# Altium footprint library WizPoE-IO-V001.PcbLib: 30 footprints (part 1 of 2)
Each footprint in its own frame and in the unit in brackets; x right, y up, seen from the top. Pads: shape width x height; smd on the part's side, far side on the other; paste and mask are expansions set on the pad; w line width, h text height; cw(c..) or ccw(c..) is an arc to the next point about the centre after c.
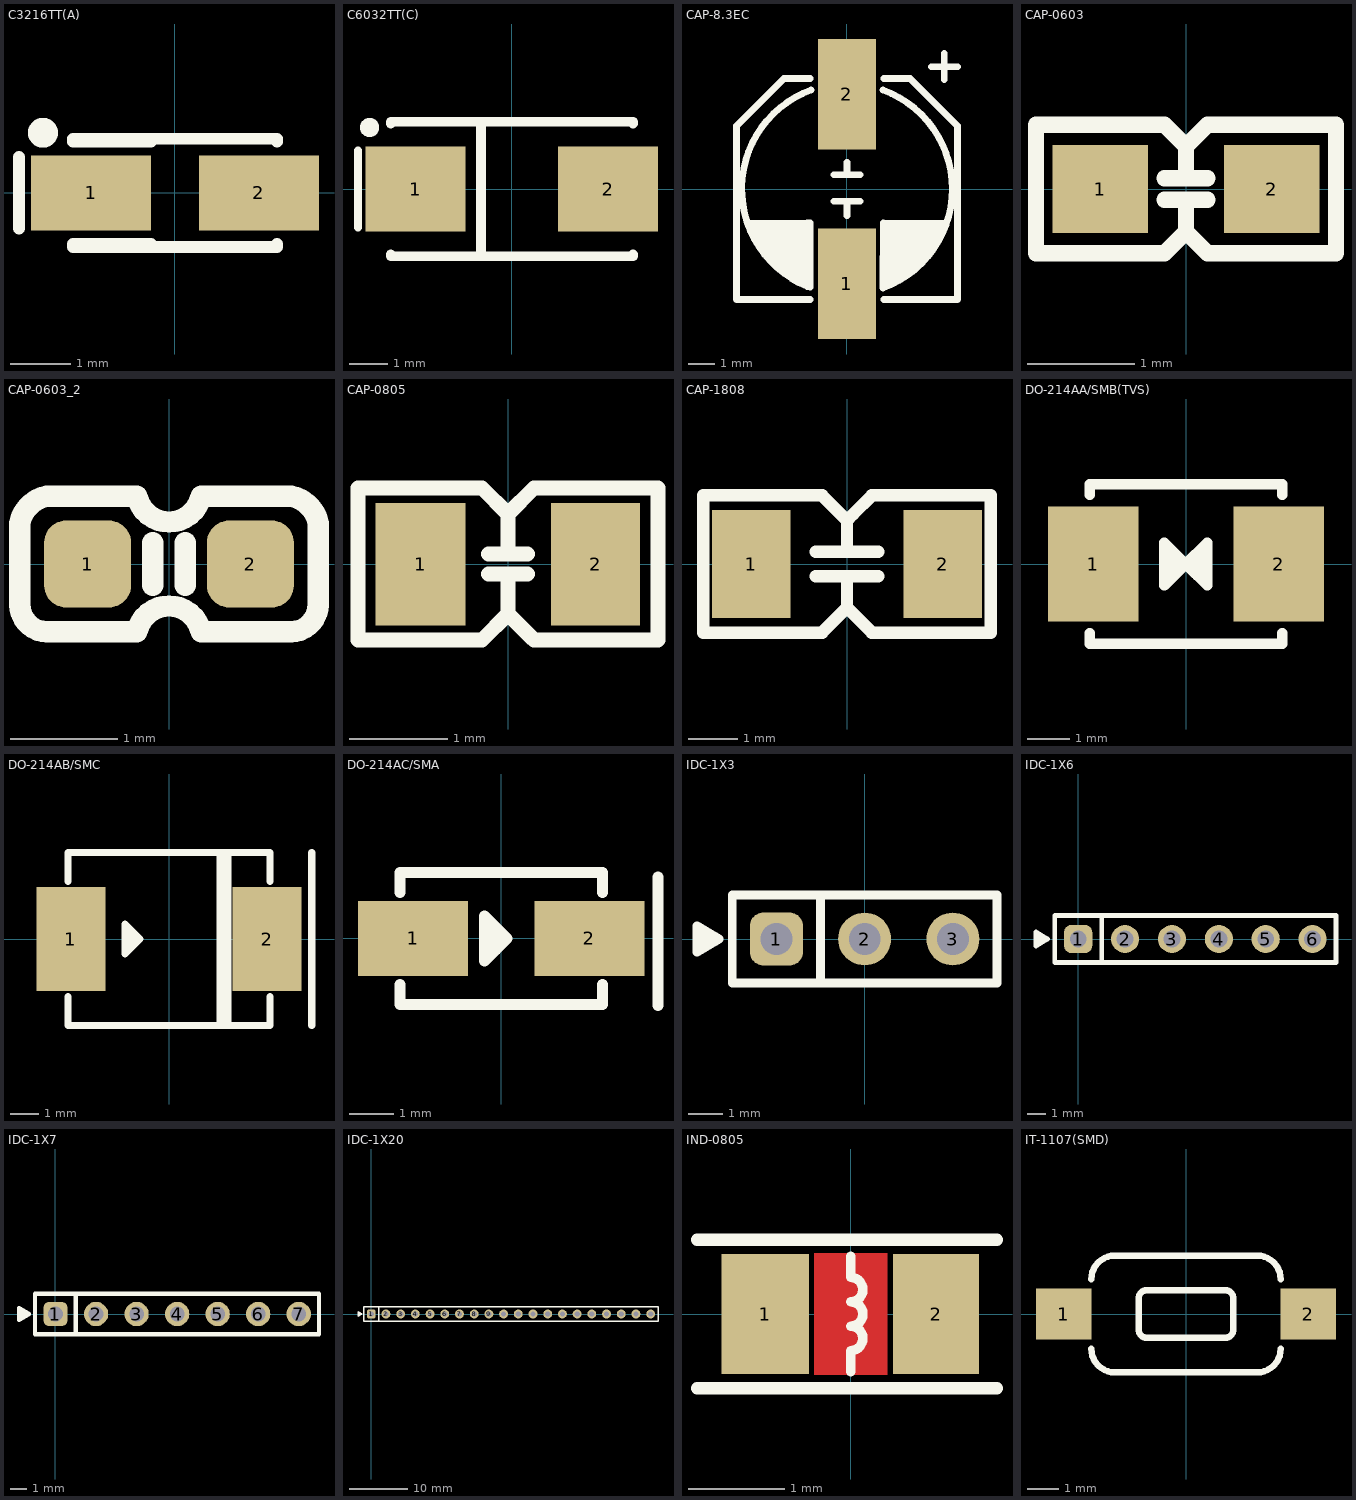
[diagram p0: the footprints below, top view; thin cyan lines are the x and y axes]

## C3216TT(A) [mm]
pads (2):
  rect 2x1.25 smd: 1(-1.4,0) 2(1.4,0)
Top Overlay:
  circle w0.25: c-2.2,1 r0.125
  lines w0.2: -2.6,-0.6 -2.6,0.6 ; -1.7,-0.9 1.7,-0.9 1.7,-0.85 ; -1.7,-0.85 -0.4,-0.85 ; -1.7,0.85 -0.4,0.85 ; -1.7,0.9 1.7,0.9 1.7,0.85
3D body "CAP_A_Size.STEP": height -0.41, standoff -2.02, extent -1.6,-0.8 1.591,0.8

## C6032TT(C) [mm]
pads (2):
  rect 2.6x2.2 smd: 1(-2.5,0) 2(2.5,0)
Top Overlay:
  circle w0.25: c-3.7,1.6 r0.125
  lines w0.2: -4,-1 -4,1
  lines w0.254: -3.15,-1.7 -3.15,-1.75 3.15,-1.75 3.15,-1.7 ; -3.15,1.7 -3.15,1.75 3.15,1.75 3.15,1.7 ; -0.8,-1.75 -0.8,1.75
3D body "CAP_C_SIZE(6032).STEP": height 2.51, standoff 0, extent -2.997,-1.6 2.997,1.6

## CAP-8.3EC [mm]
pads (2):
  rect 2.2x4.2 smd: 1(0,-3.6) 2(0,3.6)
Top Overlay:
  rectangle: 1.6,-3.45 1.9,-1.372
  rectangle: -1.95,-3.581 -1.499,-1.3
  lines w0.254: -3.75,-1.3 -1.397,-1.295 -1.397,-3.734 ; -3.625,-1.575 -3.625,-1.3 ; -3.525,-1.825 -3.525,-1.3 ; -3.4,-1.975 -3.4,-1.3 ; -3.3,-2.125 -3.3,-1.3 ; -3.15,-2.3 -3.15,-1.3 ; -3.05,-2.475 -3.05,-1.3 ; -2.9,-2.725 -2.9,-1.3 ; -2.75,-2.825 -2.75,-1.3 ; -2.6,-2.975 -2.6,-1.3 ; -2.475,-3.125 -2.475,-1.3 ; -2.3,-3.225 -2.3,-1.3 ; -2.125,-3.35 -2.125,-1.3 ; -1.95,-3.475 -1.95,-1.3 ; -1.498,-3.709 cw(c0,0) -1.368,3.759 ; -1.4,-4.2 -4.2,-4.2 -4.2,2.4 -2.4,4.2 -1.4,4.2 ; -0.5,-0.46 0.5,-0.46 ; -0.5,0.54 0.5,0.54 ; 0,-1.016 0,-0.46 ; 0,0.54 0,1.016 ; 1.368,3.759 cw(c0,0) 1.368,-3.759 1.372,-1.295 3.775,-1.3 ; 1.4,-4.2 4.2,-4.2 4.2,2.4 2.4,4.2 1.4,4.2 ; 1.9,-3.45 1.9,-1.3 ; 2.025,-3.375 2.025,-1.3 ; 2.175,-3.275 2.175,-1.3 ; 2.325,-3.25 2.325,-1.3 ; 2.475,-3.125 2.475,-1.3 ; 2.625,-3.025 2.625,-1.3 ; 2.775,-2.8 2.775,-1.3 ; 2.925,-2.725 2.925,-1.3 ; 3.075,-2.5 3.075,-1.3 ; 3.2,4.65 4.2,4.65 ; 3.225,-2.3 3.225,-1.3 ; 3.325,-2.1 3.325,-1.3 ; 3.45,-1.875 3.45,-1.3 ; 3.575,-1.625 3.575,-1.3 ; 3.625,-1.5 3.625,-1.3 ; 3.7,4.15 3.7,5.15
  lines w0.305: -1.499,-3.581 -1.499,-1.321 ; 1.6,-1.372 1.549,-3.48 2.175,-2.946
3D body "CAP_8x10,5F.STEP": height 10.31, standoff -0.01, extent -4.125,-4.652 4.175,4.648

## CAP-0603 [mm] "Ceramic CAP 0603(1608)"
height 1
pads (2):
  rect 0.89x0.82 smd: 1(-0.8,0) 2(0.8,0)
Top Overlay:
  lines w0.152: -0.2,-0.1 0.2,-0.1 ; -0.2,0.1 0.2,0.1 ; 0,-0.1 0,-0.4 ; 0,0.1 0,0.4 ; 0,-0.4 0.2,-0.6 1.4,-0.6 1.4,0.6 0.2,0.6 0,0.4 ; 0,-0.4 -0.2,-0.6 -1.4,-0.6 -1.4,0.6 -0.2,0.6 0,0.4
3D body "User Library-CerCaps0603.STEP": height 0.81, standoff -0.01, extent -0.927,-0.412 0.927,0.413

## CAP-0603_2 [mil]
pads (2):
  rrect50% 32x32 smd: 1(-30,0) 2(30,0)
Top Overlay:
  lines w7.87: -6,-7.87 -6,7.87 ; 6,-7.87 6,7.87 ; -55,-15 ccw(c-44.75,-14.75) -45,-25 -11.81,-25 cw(c0,-27.56) 11.81,-25 45,-25 ccw(c44.75,-14.75) 55,-15 55,15 ccw(c42.5,12.5) 45,25 11.81,25 cw(c0,27.56) -11.81,25 -45,25 ccw(c-42.5,12.5) -55,15 -55,-15
3D body "User Library-CerCaps0603.STEP": height 31.99, standoff -0.49, extent -36.61,-16.24 36.62,16.24

## CAP-0805 [mil]
pads (2):
  rect 36x49 smd: 1(-35,0)
  rect 35.43x49 smd: 2(35,0)
Top Overlay:
  lines w6: -7.87,-3.94 7.87,-3.94 ; -7.87,3.94 7.87,3.94 ; 0,-3.94 0,-20 ; 0,3.94 0,20 ; 0,-20 10,-30 10.45,-30.45 60,-30.45 60,30.45 10.45,30.45 0,20 ; 0,-20 -10.45,-30.45 -60,-30.45 -60,30.45 -10.45,30.45 0,20
3D body "0805 SMD Capacitor.STEP": height 30.79, standoff 0, extent -39.24,-24.5 39.5,24.71

## CAP-1808 [mm] "Ceramic CAP 1808(4520)"
pads (2):
  rect 1.6x2.2 smd: 1(-1.95,0) 2(1.95,0)
Top Overlay:
  lines w0.254: -0.635,-0.254 0.635,-0.254 ; -0.635,0.254 0.635,0.254 ; 0,-0.254 0,-0.889 ; 0,0.254 0,0.889 ; 0,-0.889 -0.508,-1.397 -2.921,-1.397 -2.921,1.397 -0.508,1.397 0,0.889 ; 0,-0.889 0.508,-1.397 2.921,-1.397 2.921,1.397 0.508,1.397 0.127,1.016 0,0.889
3D body "User Library-Chip Cap_MLCC_1808 (4520)_K.STEP": height 2, standoff 0, extent -2.25,-1.016 2.25,1.014

## DO-214AA/SMB(TVS) [mm]
height 0.8
pads (2):
  rect 2.159x2.743 smd: 1(-2.21,0) 2(2.21,0)
Top Overlay:
  lines w0.254: -2.3,-1.651 -2.3,-1.9 2.3,-1.9 2.3,-1.651 ; -2.3,1.651 -2.3,1.9 2.3,1.9 2.3,1.651 ; -0.283,0.271 -0.262,-0.257 ; 0.254,0.254 0.275,-0.275 ; -0.516,-0.511 -0.516,0.505 -0.008,-0.003 -0.516,-0.511 ; 0,0 0.508,-0.508 0.508,0.508 0,0
3D body "DO-214AA SMB.STEP": height 2.27, standoff -0.03, extent -2.708,-1.803 2.692,1.797

## DO-214AB/SMC [mm]
pads (2):
  rect 2.4x3.6 smd: 1(-3.4,0) 2(3.4,0)
Top Overlay:
  lines w0.254: -3.5,-2 -3.5,-3 3.5,-3 3.5,-2 ; -3.5,2 -3.5,3 3.5,3 3.5,2 ; -1.291,0.275 -1.27,-0.254 ; 1.778,-3 1.778,3 ; 2.032,-3 2.032,3 ; 4.953,-3 4.953,3 ; -1.524,-0.508 -1.016,0 -1.524,0.508 -1.524,-0.508
3D body "DO-214AB SMC.STEP": height 2.3, standoff 0, extent -3.975,-2.95 3.975,2.95

## DO-214AC/SMA [mm]
height 0.8
pads (2):
  rect 2.5x1.7 smd: 1(-2,0) 2(2,0)
Top Overlay:
  lines w0.254: -2.3,-1.049 -2.3,-1.5 2.3,-1.5 2.3,-1.049 ; -2.3,1.049 -2.3,1.5 2.3,1.5 2.3,1.049 ; -0.148,0.275 -0.127,-0.254 ; 3.556,-1.523 3.556,1.397 ; -0.381,-0.508 0.127,0 -0.381,0.508 -0.381,-0.508
3D body "User Library-SMAJ.step": height 2, standoff 0.01, extent -2.465,-1.27 2.465,1.27

## IDC-1X3 [mil]
height 31.5
pads (3):
  rrect50% 60x60 hole 36: 1(-100,0)
  round 60 hole 36: 2(0,0) 3(100,0)
Top Overlay:
  lines w10: -175,6 -185,-12 -185,12 -190,15 ; -50,-50 -50,50 ; -190,15 -190,-15 -165,0 -190,15 ; -150,-50 -150,50 150,50 150,-50 -150,-50
Bottom Overlay:
  circle w8: c-100,0 r39.37
3D body "PH03-3.STEP": height 336.22, standoff -118.11, extent -149.21,-49.21 150.79,50.79

## IDC-1X6 [mil] "6-Way 2.54 mm Male Header"
height 31.5
pads (6):
  rrect50% 60x60 hole 36: 1(0,0)
  round 60 hole 36: 2(100,0) 3(200,0) 4(300,0) 5(400,0) 6(500,0)
Top Overlay:
  lines w10: -75,6 -85,-12 -85,12 -90,15 ; 50,-50 50,50 ; -90,15 -65,0 -90,-15 -90,15 ; -50,-50 550,-50 550,50 -50,50 -50,-50
Bottom Overlay:
  circle w8: c0,0 r39.37
3D body "PH03-6.STEP": height 336.22, standoff -118.11, extent -49.21,-49.21 550.79,50.79

## IDC-1X7 [mil]
height 31.5
pads (7):
  rrect50% 60x60 hole 36: 1(0,0)
  round 60 hole 36: 2(100,0) 3(200,0) 4(300,0) 5(400,0) 6(500,0) 7(600,0)
Top Overlay:
  lines w10: -75,6 -85,-12 -85,12 -90,15 ; 50,-50 50,50 ; -90,15 -65,0 -90,-15 -90,15 ; -50,-50 650,-50 650,50 -50,50 -50,-50
Bottom Overlay:
  circle w8: c0,0 r39.37
3D body "PH03-7.STEP": height 336.22, standoff -118.11, extent -49.21,-49.21 650.79,50.79

## IDC-1X20 [mil]
height 31.5
pads (20):
  rrect50% 60x60 hole 36: 1(0,0)
  round 60 hole 36: 2(100,0) 3(200,0) 4(300,0) 5(400,0) 6(500,0) 7(600,0) 8(700,0) 9(800,0) 10(900,0) 11(1000,0) 12(1100,0) 13(1200,0) 14(1300,0) 15(1400,0) 16(1500,0) 17(1600,0) 18(1700,0) 19(1800,0) 20(1900,0)
Top Overlay:
  lines w10: -75,6 -85,-12 -85,12 -90,15 ; 50,-50 50,50 ; -90,15 -65,0 -90,-15 -90,15 ; -50,-50 1950,-50 1950,50 -50,50 -50,-50
Bottom Overlay:
  circle w8: c0,0 r39.37
3D body "PH03-10.STEP": height 336.22, standoff -118.11, extent -49.21,-49.21 950.79,50.79
3D body "PH03-10.STEP": height 336.22, standoff -118.11, extent 950.79,-49.21 1950.79,50.79

## IND-0805 [mil]
height 31.5
pads (2):
  rect 36x49 smd: 1(-35,0)
  rect 35.43x49 smd: 2(35,0)
Top Layer:
  pour cut-out: -15,25 -15,-25 15,-25 15,25
Top Overlay:
  lines w3.94: 0,-23.62 0,-15 ccw(c0,-10) 0,-5 ccw(c0,0) 0,5 ccw(c0,10) 0,15 0,23.62
  lines w5: -63,-30.45 60,-30.45 ; -63,30.45 60,30.45
3D body "User Library-ind_0805.STEP": height 37.4, standoff 0, extent -39.37,-23.62 39.37,23.62

## IT-1107(SMD) [mm]
pads (2):
  rect 1.75x1.6 smd: 1(-3.875,0) 2(3.875,0)
Top Overlay:
  lines w0.203: -3,-1.1 ccw(c-2.25,-1.1) -2.25,-1.85 2.25,-1.85 ccw(c2.25,-1.1) 3,-1.1 ; -3,1.1 cw(c-2.25,1.1) -2.25,1.85 2.25,1.85 cw(c2.25,1.1) 3,1.1 ; -1.5,-0.5 ccw(c-1.25,-0.5) -1.25,-0.75 1.25,-0.75 ccw(c1.25,-0.5) 1.5,-0.5 1.5,0.5 ccw(c1.25,0.5) 1.25,0.75 -1.25,0.75 ccw(c-1.25,0.5) -1.5,0.5 -1.5,-0.5
3D body "User Library-Tact switch 1181_2.step": height 2.6, standoff 0, extent -4,-1.8 4,1.8